# Altium footprint library Adeept.PcbLib: 37 footprints (part 2 of 3)
Each footprint in its own frame and in the unit in brackets; x right, y up, seen from the top. Pads: shape width x height; smd on the part's side, far side on the other; paste and mask are expansions set on the pad; w line width, h text height; cw(c..) or ccw(c..) is an arc to the next point about the centre after c.
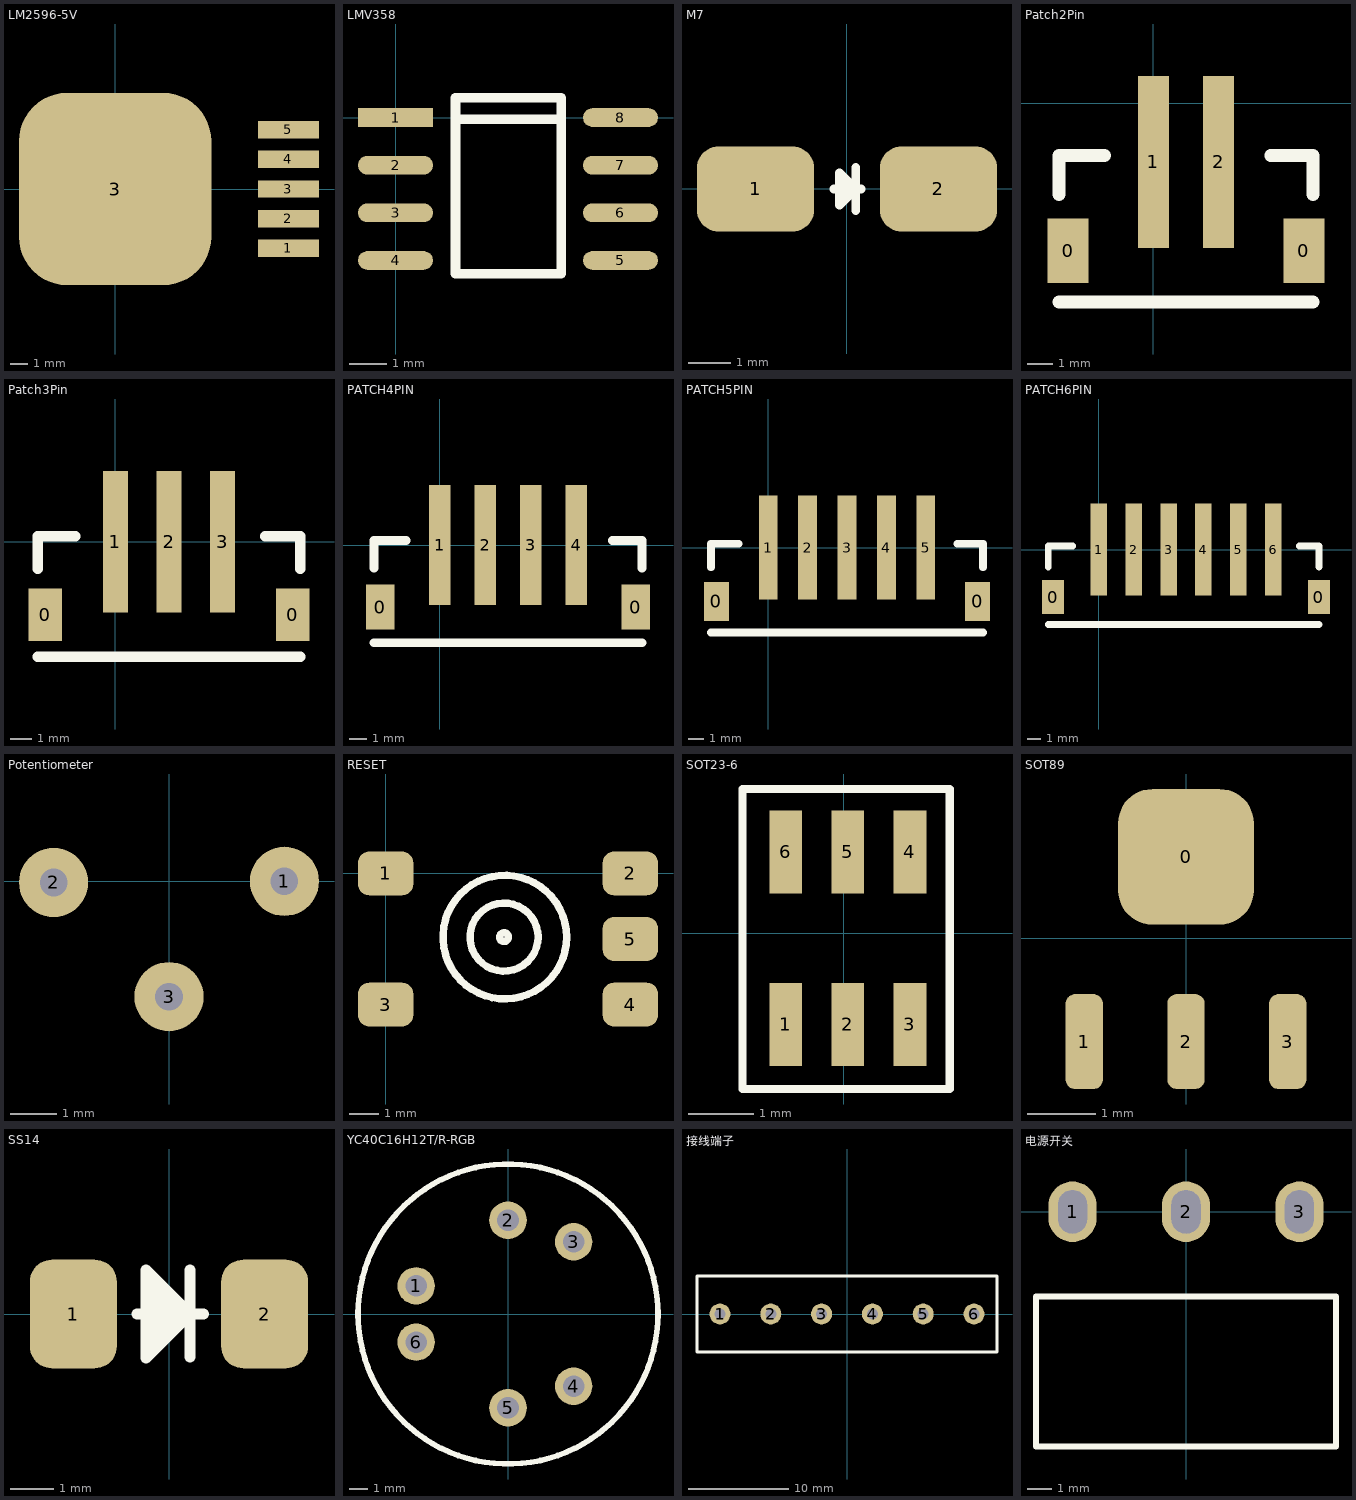
[diagram p1: the footprints below, top view; thin cyan lines are the x and y axes]

## LM2596-5V [mm]
pads (6):
  rect 3.5x1 smd: 1(9.906,-3.4) 2(9.906,-1.7) 3(9.906,0) 4(9.906,1.7) 5(9.906,3.4)
  rrect50% 11x11 smd: 3(0,0)

## LMV358 [mm]
pads (8):
  rect 2x0.5 smd: 1(0,0)
  oval 2x0.5 smd: 2(0,-1.27) 3(0,-2.54) 4(0,-3.81) 5(6,-3.81) 6(6,-2.54) 7(6,-1.27) 8(6,0)
Top Overlay:
  lines w0.254: 1.676,-0.051 4.394,-0.051 ; 1.6,-4.166 1.6,0.533 4.42,0.533 4.42,-4.166 1.6,-4.166

## M7 [mm]
pads (2):
  rrect50% 2.75x2 smd: 1(-2.15,0) 2(2.15,0)
Top Overlay:
  lines w0.203: -0.305,0 0.33,0 ; -0.051,-0.127 -0.051,0.203 ; 0.203,-0.508 0.203,0.508 ; -0.178,-0.381 0.203,0 -0.178,0.381 -0.178,-0.381

## Patch2Pin [mm]
pads (4):
  rect 1.6x2.5 smd: 0(-3.33,-5.75) 0(5.87,-5.75)
  rect 1.2x6.7 smd: 1(0,-2.286) 2(2.54,-2.286)
Top Overlay:
  lines w0.5: -3.683,-7.747 6.223,-7.747 ; -3.683,-3.556 -3.683,-2.032 -1.905,-2.032 ; 4.572,-2.032 6.223,-2.032 6.223,-3.556

## Patch3Pin [mm]
pads (5):
  rect 1.6x2.5 smd: 0(-3.33,-3.464) 0(8.41,-3.464)
  rect 1.2x6.7 smd: 1(0,0) 2(2.54,0) 3(5.08,0)
Top Overlay:
  lines w0.5: -3.683,-5.461 8.763,-5.461 ; -3.683,-1.27 -3.683,0.254 -1.905,0.254 ; 7.112,0.254 8.763,0.254 8.763,-1.27

## PATCH4PIN [mm]
pads (6):
  rect 1.6x2.5 smd: 0(-3.33,-3.464) 0(10.95,-3.464)
  rect 1.2x6.7 smd: 1(0,0) 2(2.54,0) 3(5.08,0) 4(7.62,0)
Top Overlay:
  lines w0.5: -3.683,-5.461 11.303,-5.461 ; -3.683,-1.27 -3.683,0.254 -1.905,0.254 ; 9.652,0.254 11.303,0.254 11.303,-1.27

## PATCH5PIN [mm]
pads (7):
  rect 1.6x2.5 smd: 0(-3.33,-3.464) 0(13.49,-3.464)
  rect 1.2x6.7 smd: 1(0,0) 2(2.54,0) 3(5.08,0) 4(7.62,0) 5(10.16,0)
Top Overlay:
  lines w0.5: -3.683,-5.461 13.843,-5.461 ; -3.683,-1.27 -3.683,0.254 -1.905,0.254 ; 12.192,0.254 13.843,0.254 13.843,-1.27

## PATCH6PIN [mm]
pads (8):
  rect 1.6x2.5 smd: 0(-3.33,-3.464) 0(16.03,-3.464)
  rect 1.2x6.7 smd: 1(0,0) 2(2.54,0) 3(5.08,0) 4(7.62,0) 5(10.16,0) 6(12.7,0)
Top Overlay:
  lines w0.5: -3.683,-5.461 16.03,-5.461 ; -3.683,-1.27 -3.683,0.254 -1.905,0.254 ; 14.605,0.254 16.03,0.254 16.03,-1.27

## Potentiometer [mm]
height 1.1
pads (3):
  round 1.5 hole 0.6: 1(2.5,0) 2(-2.5,-0.025) 3(0,-2.5)

## RESET [mm]
pads (5):
  rrect50% 1.9x1.5 smd: 1(0,0) 2(8.4,0) 3(0,-4.5) 4(8.4,-4.5) 5(8.4,-2.25)
Top Overlay:
  circle w0.254: c4.064,-2.184 r0.148
  circle w0.254: c4.064,-2.184 r1.169
  circle w0.254: c4.089,-2.184 r2.122

## SOT23-6 [mm]
pads (6):
  rect 0.5x1.27 smd: 1(-0.893,-1.397) 2(0.057,-1.397) 3(1.012,-1.397) 4(1.012,1.244) 5(0.057,1.244) 6(-0.893,1.244)
Top Overlay:
  lines w0.127: -1.554,-2.388 1.621,-2.388 1.621,2.21 -1.554,2.21 -1.554,-2.388

## SOT89 [mm]
pads (4):
  rrect50% 2x2 smd: 0(0,1.2)
  rrect50% 0.55x1.4 smd: 1(-1.5,-1.524) 2(0,-1.524) 3(1.5,-1.524)

## SS14 [mm]
pads (2):
  rrect50% 2x2.5 smd: 1(-2.2,0) 2(2.2,0)
Top Overlay:
  lines w0.254: -0.737,0 -0.533,0 ; -0.356,-0.66 -0.356,0.635 ; -0.178,-0.457 -0.178,0.508 ; 0,-0.305 0,0.356 ; 0.178,-0.127 0.178,0.203 ; 0.483,-0.991 0.483,0 ; 0.483,1.016 0.483,0 ; 0.787,0 0.483,0 ; 0.483,0 -0.533,1.016 -0.533,-1.016 0.483,0

## YC40C16H12T/R-RGB [mm]
pads (6):
  round 2 hole 1.15: 1(-4.9,1.5) 2(0,5) 3(3.5,3.85) 4(3.5,-3.85) 5(0,-5) 6(-4.9,-1.5)
Top Overlay:
  circle w0.3: c0,0 r8

## 接线端子 [mm]
pads (6):
  round 2.1 hole 1.1: 1(-12.7,0) 2(-7.62,0) 3(-2.54,0) 4(2.54,0) 5(7.62,0) 6(12.7,0)
Top Overlay:
  lines w0.254: -15,-3.8 15,-3.8 15,3.8 -15,3.8 -15,-3.8

## 电源开关 [mm]
pads (3):
  oval 2x2.5 hole 1.2 slot 1.8 at 90 deg: 1(-4.69,0) 2(0,0) 3(4.69,0)
Top Overlay:
  lines w0.254: -6.2,-9.7 6.2,-9.7 6.2,-3.5 -6.2,-3.5 -6.2,-9.7